# EAGLE library part MCP3002* (library IC_Data-Conversion)
2.7V Dual Channel 10-Bit A/D Converter with SPI Serial Interface Datasheet <http://ww1.microchip.com/downloads/en/DeviceDoc/21294E.pdf>
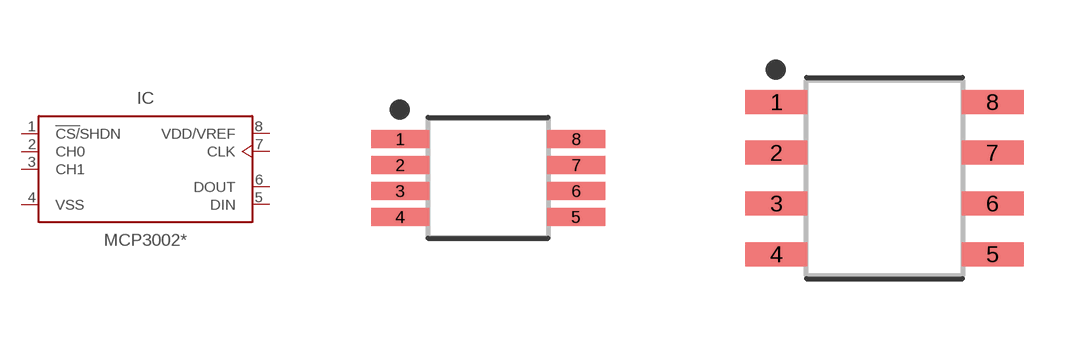
[diagram p4: symbol with the pads of SOP65P490X110-8; footprints SOP65P490X110-8, SOIC127P600X175-8]

Designator prefix IC

## MCP3002-I/MS_MSOP (CATEGORY: IC_Data-Conversion; DESCRIPTION: 2.7V Dual Channel 10-Bit A/D Converter with SPI Serial Interface; MANUFACTURER: Microchip Technology; MPN: MCP3002-I/MS; OPERATING_TEMP: -40°C to 85°C; PART_STATUS: Active; ROHS_COMPLIANT: ROHS3 Compliant; SERIES: MCP3002; SUB-CATEGORY: ADC; VALUE: MCP3002)  [SOP65P490X110-8]
1  !CS/!SHDN  in
2  CH0  in
3  CH1  in
4  VSS  pwr
5  DIN  in
6  DOUT  out
7  CLK  in
8  VDD/VREF  pwr

## MCP3002-I/SN_SOIC (CATEGORY: IC_Data-Conversion; DESCRIPTION: 2.7V Dual Channel 10-Bit A/D Converter with SPI Serial Interface; MANUFACTURER: Microchip Technology; MPN: MCP3002-I/SN; OPERATING_TEMP: -40°C to 85°C; PART_STATUS: Active; ROHS_COMPLIANT: ROHS3 Compliant; SERIES: MCP3002; SUB-CATEGORY: ADC; VALUE: MCP3002)  [SOIC127P600X175-8]
Pads as for SOP65P490X110-8

## MCP3002-I/ST_TSSOP (CATEGORY: IC_Data-Conversion; DESCRIPTION: 2.7V Dual Channel 10-Bit A/D Converter with SPI Serial Interface; MANUFACTURER: Microchip Technology; MPN: MCP3002-I/ST; OPERATING_TEMP: -40°C to 85°C; PART_STATUS: Active; ROHS_COMPLIANT: ROHS3 Compliant; SERIES: MCP3002; SUB-CATEGORY: ADC; VALUE: MCP3002)  [SOP65P640X120-8]
Pads as for SOP65P490X110-8

## MCP3002-I/P_PDIP (CATEGORY: IC_Data-Conversion; DESCRIPTION: 2.7V Dual Channel 10-Bit A/D Converter with SPI Serial Interface; MANUFACTURER: Microchip Technology; MPN: MCP3002-I/P; OPERATING_TEMP: -40°C to +85°C; PART_STATUS: Active; ROHS_COMPLIANT: ROHS3 Compliant; SERIES: MCP3002; SUB-CATEGORY: ADC; VALUE: MCP3002)  [DIP787W56P254L950H533Q8B]
Pads as for SOP65P490X110-8

## Footprint SOP65P490X110-8 (pad centres in mm)
8-SOP, 0.65 mm pitch, 4.90 mm span, 3.00 X 3.00 X 1.10 mm body 8-pin SOP package with 0.65 mm pitch, 4.90 mm span with body size 3.00 X 3.00 X 1.10 mm
smd 1.45 x 0.45: 1 -2.2,0.975; 2 -2.2,0.325; 3 -2.2,-0.325; 4 -2.2,-0.975; 5 2.2,-0.975; 6 2.2,-0.325; 7 2.2,0.325; 8 2.2,0.975

## Footprint SOIC127P600X175-8 (pad centres in mm)
8-SOIC, 1.27 mm pitch, 6.00 mm span, 4.90 X 3.90 X 1.75 mm body 8-pin SOIC package with 1.27 mm pitch, 6.00 mm span with body size 4.90 X 3.90 X 1.75 mm
smd 1.55 x 0.6: 1 -2.7,1.905; 2 -2.7,0.635; 3 -2.7,-0.635; 4 -2.7,-1.905; 5 2.7,-1.905; 6 2.7,-0.635; 7 2.7,0.635; 8 2.7,1.905

## Footprint SOP65P640X120-8 (pad centres in mm)
8-SOP, 0.65 mm pitch, 6.40 mm span, 3.00 X 4.40 X 1.20 mm body 8-pin SOP package with 0.65 mm pitch, 6.40 mm span with body size 3.00 X 4.40 X 1.20 mm
smd 1.45 x 0.45: 1 -2.95,0.975; 2 -2.95,0.325; 3 -2.95,-0.325; 4 -2.95,-0.975; 5 2.95,-0.975; 6 2.95,-0.325; 7 2.95,0.325; 8 2.95,0.975

## Footprint DIP787W56P254L950H533Q8B (pad centres in mm)
8-DIP, 2.54 mm (0.10 in) pitch, 7.87 mm (0.31 in) span, 9.50 X 6.61 X 5.33 mm body 8-pin DIP package with 2.54 mm (0.10 in) pitch, 7.87 mm (0.31 in) span with body size 9.50 X 6.61 X 5.33 mm
drill 0.877 pad 1.477: 1 -3.935,3.81; 2 -3.935,1.27; 3 -3.935,-1.27; 4 -3.935,-3.81; 5 3.935,-3.81; 6 3.935,-1.27; 7 3.935,1.27; 8 3.935,3.81